# EAGLE library part A4403 (library misc)
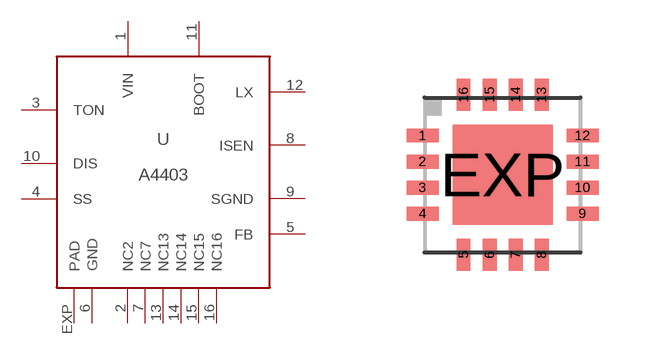
[diagram p0: symbol with the pads of QFN16-4X4; footprint QFN16-4X4]

Designator prefix U

## A4403  [QFN16-4X4]
1  VIN
2  NC2
3  TON
4  SS
5  FB
6  GND
7  NC7
8  ISEN
9  SGND
10  DIS
11  BOOT
12  LX
13  NC13
14  NC14
15  NC15
16  NC16
EXP  PAD

## Footprint QFN16-4X4 (pad centres in mm)
16-Lead Plastic Quad Flat, No Lead Package (ML) - 4x4x0.9mm Body [QFN] Source: http://ww1.microchip.com/downloads/en/DeviceDoc/41203E.pdf
smd 0.8 x 0.35: 1 -2,0.975; 2 -2,0.325; 3 -2,-0.325; 4 -2,-0.975; 9 2,-0.975; 10 2,-0.325; 11 2,0.325; 12 2,0.975
smd 0.35 x 0.8: 5 -0.975,-2; 6 -0.325,-2; 7 0.325,-2; 8 0.975,-2; 13 0.975,2; 14 0.325,2; 15 -0.325,2; 16 -0.975,2
smd 2.5 x 2.5: EXP 0,0